# Altium footprint library EE311_footprints.PcbLib: 35 footprints (part 2 of 3)
Each footprint in its own frame and in the unit in brackets; x right, y up, seen from the top. Pads: shape width x height; smd on the part's side, far side on the other; paste and mask are expansions set on the pad; w line width, h text height; cw(c..) or ccw(c..) is an arc to the next point about the centre after c.
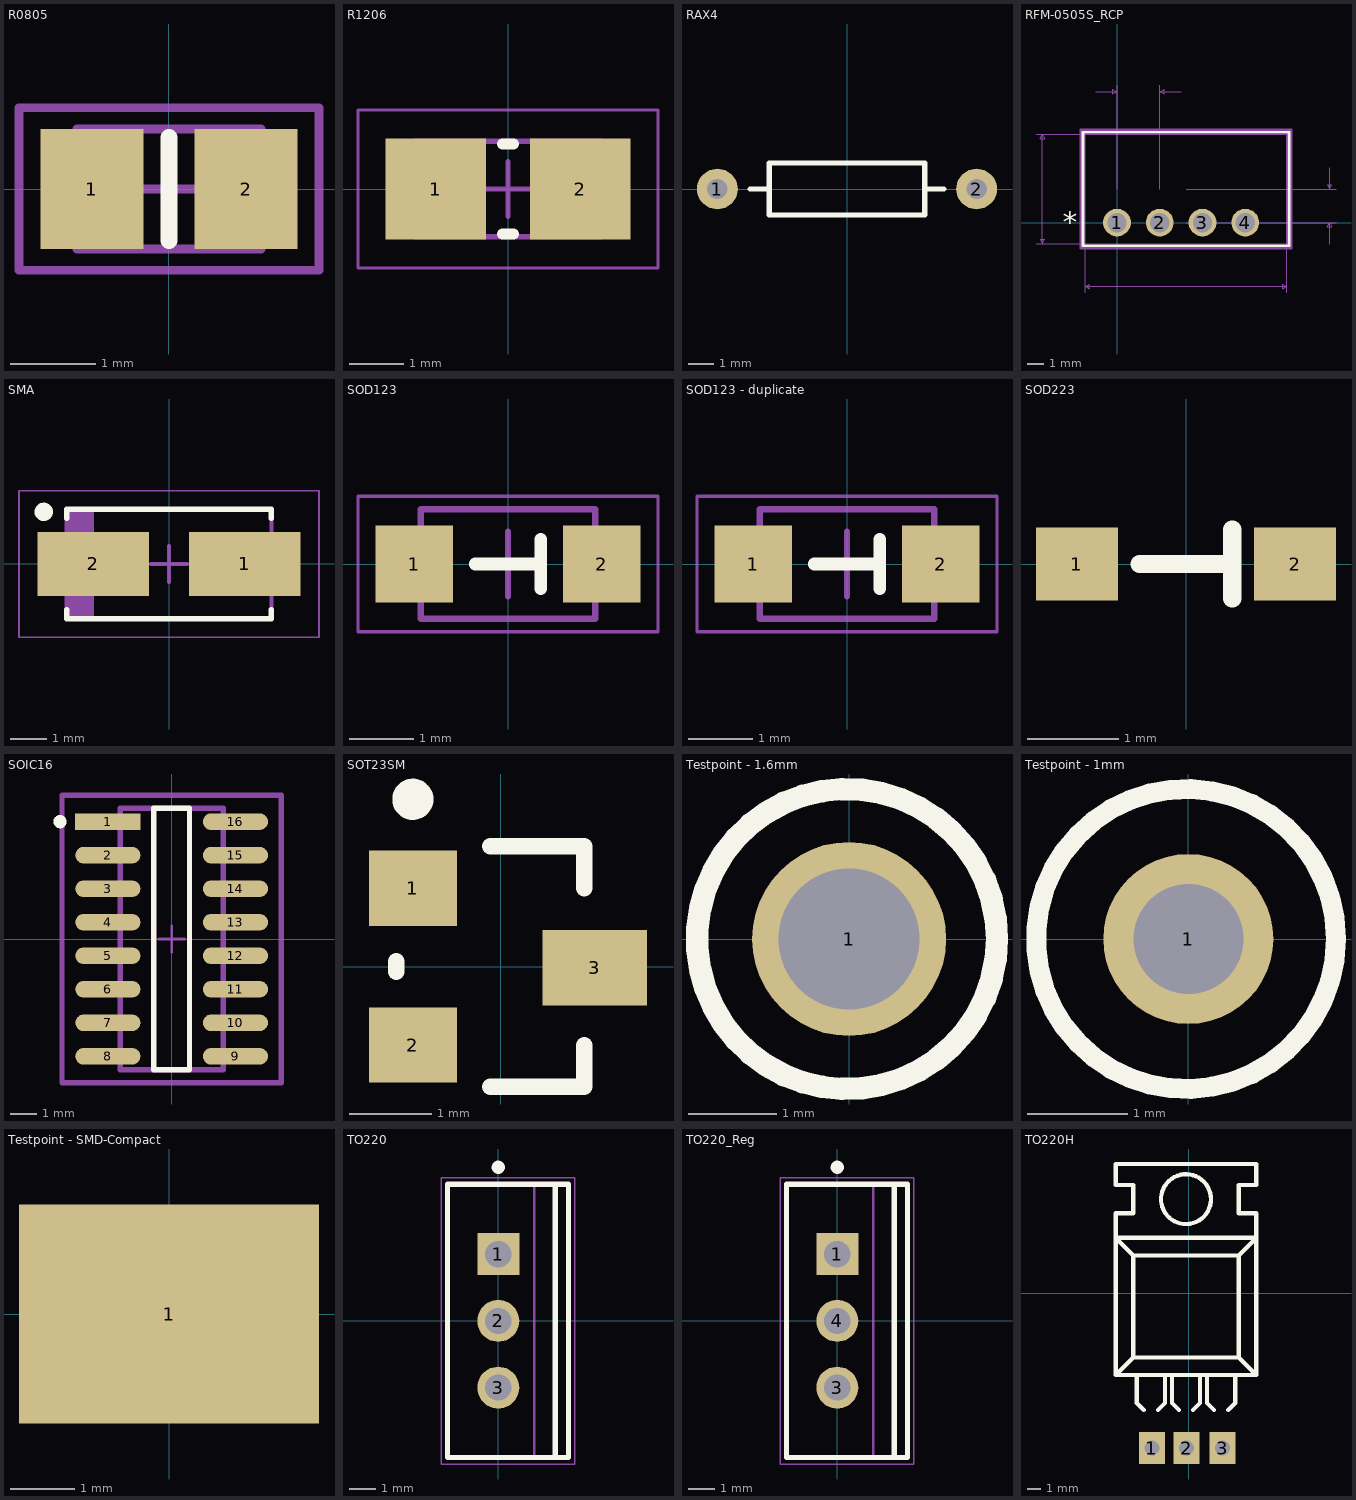
[diagram p1: the footprints below, top view; thin cyan lines are the x and y axes]

## R0805 [mm]
pads (2):
  rect 1.2x1.4 smd: 1(-0.9,0) 2(0.9,0)
Top Overlay:
  lines w0.2: 0,-0.6 0,0.6
Mechanical 13:
  lines w0.1: -1.075,-0.7 -1.075,0.7 1.075,0.7 1.075,-0.7 -1.075,-0.7
Mechanical 15:
  lines w0.1: -0.5,0 0.5,0 ; 0,-0.5 0,0.5 ; -1.75,-0.95 -1.75,0.95 1.75,0.95 1.75,-0.95 -1.75,-0.95
3D body: height 0.65, standoff 0, extent -1.075,-0.7 1.075,0.7

## R1206 [mm] "Chip Resistor, 2-Leads, Body 3.20x1.60mm, IPC Low Density"
height 0.65
pads (2):
  rect 1.85x1.85 smd: 1(-1.325,0) 2(1.325,0)
Top Overlay:
  lines w0.2: -0.1,-0.825 0.1,-0.825 ; -0.1,0.825 0.1,0.825
Mechanical 13:
  lines w0.1: -1.7,-0.875 -1.7,0.875 1.7,0.875 1.7,-0.875 -1.7,-0.875
Mechanical 15:
  lines w0.05: -2.75,-1.45 -2.75,1.45 2.75,1.45 2.75,-1.45 -2.75,-1.45
  lines w0.1: -0.5,0 0.5,0 ; 0,-0.5 0,0.5
3D body: height 0.65, standoff 0, extent -0.8,-0.875 0.8,0.875
3D body: height 0.65, standoff 0, extent -1.7,-0.875 -0.8,0.875
3D body: height 0.65, standoff 0, extent 0.8,-0.875 1.7,0.875

## RAX4 [mm]
pads (2):
  round 1.6 hole 0.8: 1(-5.08,0) 2(5.08,0)
Top Overlay:
  lines w0.2: -3.81,0 -3.048,0 ; 3.048,0 3.81,0 ; -3.048,-1.016 3.048,-1.016 3.048,1.016 -3.048,1.016 -3.048,-1.016

## RFM-0505S_RCP [mil]
pads (4):
  round 65 hole 45 mask+0: 1(0,0) 2(100,0) 3(200,0) 4(300,0)
Top Overlay:
  lines w6: -79.58,-54.26 402.42,-54.26 402.42,211.74 -79.58,211.74 -79.58,-54.26
  text "*" at -127.08,-25 h50
Mechanical 7:
  lines w1: -189.58,-49.26 -74.58,-49.26 -74.58,-164.26 ; -189.58,206.74 -74.58,206.74 ; -50,306.74 0,306.74 ; 0,78.74 0,321.74 ; 100,78.74 100,321.74 ; 150,306.74 100,306.74 ; 161.42,0 512.42,0 ; 161.42,78.74 512.42,78.74 ; 397.42,-164.26 397.42,-49.26 ; 497.42,-50 497.42,0 ; 497.42,128.74 497.42,78.74 ; -174.58,-49.26 -174.58,206.74 ; -174.58,-49.26 -179.58,-39.26 -169.58,-39.26 -174.58,-49.26 ; -174.58,206.74 -179.58,196.74 -169.58,196.74 -174.58,206.74 ; -74.58,-149.26 397.42,-149.26 ; -74.58,-149.26 -64.58,-144.26 -64.58,-154.26 -74.58,-149.26 ; 0,306.74 -10,311.74 -10,301.74 0,306.74 ; 100,306.74 110,311.74 110,301.74 100,306.74 ; 397.42,-149.26 387.42,-144.26 387.42,-154.26 397.42,-149.26 ; 497.42,0 492.42,-10 502.42,-10 497.42,0 ; 497.42,78.74 492.42,88.74 502.42,88.74 497.42,78.74
  text "Default Padstyle: OX65Y65D45P" at -201.08,-299.26 h50
  text "Pin 1 Padstyle: EX65Y65D45P" at -176.08,-359.26 h50
  text "Alt 1 Padstyle: OX60Y90D30P" at -176.08,-419.26 h50
  text "Alt 2 Padstyle: OX90Y60D30P" at -176.08,-479.26 h50
  text "0.1in/2.54mm" at -25,326.74 h25
  text "0.256in/6.502mm" at -382.08,66.24 h25
  text "-0.079in/-2mm" at 517.42,26.87 h25
  text "0.472in/11.989mm" at 61.42,-194.26 h25
Mechanical 13:
  lines w1: -74.58,-49.26 397.42,-49.26 397.42,206.74 -74.58,206.74 -74.58,-49.26
Mechanical 15:
  lines w6: -84.58,-59.26 -84.58,216.74 407.42,216.74 407.42,-59.26 -84.58,-59.26
3D body: height 10, standoff 0, extent 0,0 10,10

## SMA [mm] "Molded Diode, 2-Leads, Body 5.20x2.65mm, IPC Low Density"
height 2.4
pads (2):
  rect 3.05x1.75 smd: 1(2.075,0) 2(-2.075,0)
Top Overlay:
  circle w0.25: c-3.425,1.425 r0.125
  lines w0.15: -2.8,-1.25 -2.8,-1.5 2.8,-1.5 2.8,-1.25 ; -2.8,1.25 -2.8,1.5 2.8,1.5 2.8,1.25
Mechanical 13:
  rectangle: -2.8,-1.5 -2.047,1.5
  lines w0.1: -2.8,-1.5 2.8,-1.5 2.8,1.5 -2.8,1.5 -2.8,-1.5
Mechanical 15:
  lines w0.05: -4.1,-2 4.1,-2 4.1,2 -4.1,2 -4.1,-2
  lines w0.1: -0.5,0 0.5,0 ; 0,-0.5 0,0.5
3D body: height 2.4, standoff 0, extent -2.8,-1.5 2.8,1.5

## SOD123 [mm] "SODFL, 2-Leads, Body 1.60x3.50mm, IPC Low Density"
height 1.1
pads (2):
  rect 1.2x1.2 smd: 1(-1.45,0) 2(1.45,0)
Top Overlay:
  lines w0.2: -0.508,0 0.508,0 ; 0.508,-0.381 0.508,0.381
Mechanical 13:
  lines w0.1: -1.35,-0.85 -1.35,0.85 1.35,0.85 1.35,-0.85 -1.35,-0.85
Mechanical 15:
  lines w0.05: -2.325,-1.05 -2.325,1.05 2.325,1.05 2.325,-1.05 -2.325,-1.05
  lines w0.1: -0.5,0 0.5,0 ; 0,-0.5 0,0.5
3D body: height 1.1, standoff 0, extent -1.35,-0.85 1.35,0.85

## SOD123 - duplicate [mm] "SODFL, 2-Leads, Body 1.60x3.50mm, IPC Low Density"
height 1.1
pads (2):
  rect 1.2x1.2 smd: 1(-1.45,0) 2(1.45,0)
Top Overlay:
  lines w0.2: -0.508,0 0.508,0 ; 0.508,-0.381 0.508,0.381
Mechanical 13:
  lines w0.1: -1.35,-0.85 1.35,-0.85 1.35,0.85 -1.35,0.85 -1.35,-0.85
Mechanical 15:
  lines w0.05: -2.325,-1.05 2.325,-1.05 2.325,1.05 -2.325,1.05 -2.325,-1.05
  lines w0.1: -0.5,0 0.5,0 ; 0,-0.5 0,0.5
3D body: height 1.1, standoff 0, extent -1.35,-0.85 1.35,0.85

## SOD223 [mm]
pads (2):
  rect 0.9x0.8 smd: 1(-1.2,0) 2(1.2,0)
Top Overlay:
  lines w0.2: -0.508,0 0.508,0 ; 0.508,-0.381 0.508,0.381
3D body "SOD323.STEP": height 1.1, standoff 0, extent -1.808,-0.802 0.792,0.548

## SOIC16 [mm]
pads (16):
  rect 2.474x0.622 smd paste+0 mask+0: 1(-2.416,4.445)
  rrect100% 2.474x0.622 smd paste+0 mask+0: 2(-2.416,3.175) 3(-2.416,1.905) 4(-2.416,0.635) 5(-2.416,-0.635) 6(-2.416,-1.905) 7(-2.416,-3.175) 8(-2.416,-4.445) 9(2.416,-4.445) 10(2.416,-3.175) 11(2.416,-1.905) 12(2.416,-0.635) 13(2.416,0.635) 14(2.416,1.905) 15(2.416,3.175) 16(2.416,4.445)
Top Overlay:
  circle w0.25: c-4.228,4.445 r0.125
  lines w0.2: -0.679,-4.95 -0.679,4.95 0.679,4.95 0.679,-4.95 -0.679,-4.95
Mechanical 5:
  lines w0.2: -4.153,-5.45 -4.153,5.45 4.153,5.45 4.153,-5.45 -4.153,-5.45
  text ".Designator" at 0,0.188 h1
Mechanical 13:
  lines w0.2: -1.95,-4.95 -1.95,4.95 1.95,4.95 1.95,-4.95 -1.95,-4.95
Mechanical 15:
  lines w0.2: -4.153,-5.45 -4.153,5.45 4.153,5.45 4.153,-5.45 -4.153,-5.45
Mechanical 16:
  lines w0.1: -0.5,0 0.5,0 ; 0,-0.5 0,0.5
3D body "IC_Texas_Instruments_SN74HC595DR_eec.STEP": height 0.25, standoff 0, extent -4.153,-5.45 4.153,5.45

## SOT23SM [mil] "SOT23 Medium Intensity"
height 43.31
pads (3):
  rect 42x36 smd: 1(-42,37.49) 2(-42,-37.51)
  rect 50x36 smd: 3(45,-0.51)
Top Overlay:
  circle w9.84: c-42,80 r4.92
  lines w7.87: -50,-2.51 -50,2.49 ; -5,-57.51 40,-57.51 40,-37.51 ; -5,57.49 40,57.49 40,37.49
3D body "sot23.STEP": height 39.37, standoff 0, extent -46.06,-57.49 46.07,57.48

## Testpoint - 1.6mm [mm]
pads (1):
  round 2.2 hole 1.6: 1(0,0)
Top Overlay:
  circle w0.254: c-0.023,0 r1.7
3D body "User Library-TEST POINT BLU Keystone 5117.step": height 4.89, standoff -3.07, extent -1.27,-1.27 1.27,1.27

## Testpoint - 1mm [mm]
pads (1):
  round 1.7 hole 1.1: 1(0,0)
Top Overlay:
  circle w0.2: c-0.023,0 r1.5
3D body "User Library-TEST POINT BLU Keystone 5117.step": height 4.89, standoff -3.07, extent -1.27,-1.27 1.27,1.27

## Testpoint - SMD-Compact [mm]
pads (1):
  rect 4.7x3.43 smd: 1(0,0)

## TO220 [mm] "FM, 3-Leads, Body 10.03x8.98mm, Pitch 2.54mm"
height 20.75
pads (3):
  rect 1.6x1.6 hole 1: 1(0,2.54)
  round 1.6 hole 1: 2(0,0) 3(0,-2.54)
Top Overlay:
  circle w0.25: c0,5.85 r0.125
  lines w0.2: 2.17,-5.2 2.17,5.2 ; -1.93,-5.2 -1.93,5.2 2.67,5.2 2.67,-5.2 -1.93,-5.2
Mechanical 13:
  lines w0.1: 1.37,-5.2 1.37,5.2 ; -1.93,-5.2 2.67,-5.2 2.67,5.2 -1.93,5.2 -1.93,-5.2
Mechanical 15:
  lines w0.05: -2.18,-5.45 2.92,-5.45 2.92,5.45 -2.18,5.45 -2.18,-5.45
  lines w0.1: -0.5,0 0.5,0 ; 0,-0.5 0,0.5
3D body: height 20.75, standoff 19.83, extent 1.37,-5.025 2.67,5.025
3D body: height 18.32, standoff 17.95, extent 1.37,-5.025 2.67,-1.875
3D body: height 18.32, standoff 17.95, extent 1.37,1.875 2.67,5.025
3D body: height 17.95, standoff 17.58, extent 1.37,-5.025 2.67,-1.875
3D body: height 17.95, standoff 17.58, extent 1.37,1.875 2.67,5.025
3D body: height 18.67, standoff 18.32, extent 1.37,-5.025 2.67,-1.839
3D body: height 18.67, standoff 18.32, extent 1.37,1.839 2.67,5.025
3D body: height 17.59, standoff 17.23, extent 1.37,-5.025 2.67,-1.839
3D body: height 17.59, standoff 17.23, extent 1.37,1.839 2.67,5.025
3D body: height 19, standoff 18.67, extent 1.37,-5.025 2.67,-1.732
3D body: height 19, standoff 18.67, extent 1.37,1.732 2.67,5.025
3D body: height 17.24, standoff 16.91, extent 1.37,-5.025 2.67,-1.732
3D body: height 17.24, standoff 16.91, extent 1.37,1.732 2.67,5.025
3D body: height 19.28, standoff 18.99, extent 1.37,-5.025 2.67,-1.559
3D body: height 19.28, standoff 18.99, extent 1.37,1.559 2.67,5.025
3D body: height 16.91, standoff 16.62, extent 1.37,-5.025 2.67,-1.559
3D body: height 16.91, standoff 16.62, extent 1.37,1.559 2.67,5.025
3D body: height 19.51, standoff 19.28, extent 1.37,-5.025 2.67,-1.326
3D body: height 19.51, standoff 19.28, extent 1.37,1.326 2.67,5.025
3D body: height 16.63, standoff 16.39, extent 1.37,-5.025 2.67,-1.326
3D body: height 16.63, standoff 16.39, extent 1.37,1.326 2.67,5.025
3D body: height 19.69, standoff 19.51, extent 1.37,-5.025 2.67,-1.042
3D body: height 19.69, standoff 19.51, extent 1.37,1.042 2.67,5.025
3D body: height 16.4, standoff 16.22, extent 1.37,-5.025 2.67,-1.042
3D body: height 16.4, standoff 16.22, extent 1.37,1.042 2.67,5.025
3D body: height 19.79, standoff 19.68, extent 1.37,-5.025 2.67,-0.718
3D body: height 19.79, standoff 19.68, extent 1.37,0.718 2.67,5.025
3D body: height 16.22, standoff 16.11, extent 1.37,-5.025 2.67,-0.718
3D body: height 16.22, standoff 16.11, extent 1.37,0.718 2.67,5.025
3D body: height 19.83, standoff 19.79, extent 1.37,-5.025 2.67,-0.366
3D body: height 19.83, standoff 19.79, extent 1.37,0.366 2.67,5.025
3D body: height 16.12, standoff 16.08, extent 1.37,-5.025 2.67,-0.366
3D body: height 16.12, standoff 16.08, extent 1.37,0.366 2.67,5.025
3D body: height 16.08, standoff 14.35, extent 1.37,-5.025 2.67,5.025
3D body: height 14.35, standoff 4.8, extent -1.93,-5.2 2.67,5.2
3D body: height 0, standoff -1.6, extent -0.235,-2.92 0.235,-2.16
3D body: height 4.8, standoff 0, extent -0.235,-3.13 0.235,-1.95
3D body: height 0, standoff -1.6, extent -0.235,-0.38 0.235,0.38
3D body: height 4.8, standoff 0, extent -0.235,-0.59 0.235,0.59
3D body: height 0, standoff -1.6, extent -0.235,2.16 0.235,2.92
3D body: height 4.8, standoff 0, extent -0.235,1.95 0.235,3.13

## TO220_Reg [mm] "FM, 3-Leads, Body 10.03x8.98mm, Pitch 2.54mm"
height 20.75
pads (3):
  rect 1.6x1.6 hole 1: 1(0,2.54)
  round 1.6 hole 1: 3(0,-2.54) 4(0,0)
Top Overlay:
  circle w0.25: c0,5.85 r0.125
  lines w0.2: 2.17,-5.2 2.17,5.2 ; -1.93,-5.2 -1.93,5.2 2.67,5.2 2.67,-5.2 -1.93,-5.2
Mechanical 13:
  lines w0.1: 1.37,-5.2 1.37,5.2 ; -1.93,-5.2 2.67,-5.2 2.67,5.2 -1.93,5.2 -1.93,-5.2
Mechanical 15:
  lines w0.05: -2.18,-5.45 2.92,-5.45 2.92,5.45 -2.18,5.45 -2.18,-5.45
  lines w0.1: -0.5,0 0.5,0 ; 0,-0.5 0,0.5
3D body: height 20.75, standoff 19.83, extent 1.37,-5.025 2.67,5.025
3D body: height 18.32, standoff 17.95, extent 1.37,-5.025 2.67,-1.875
3D body: height 18.32, standoff 17.95, extent 1.37,1.875 2.67,5.025
3D body: height 17.95, standoff 17.58, extent 1.37,-5.025 2.67,-1.875
3D body: height 17.95, standoff 17.58, extent 1.37,1.875 2.67,5.025
3D body: height 18.67, standoff 18.32, extent 1.37,-5.025 2.67,-1.839
3D body: height 18.67, standoff 18.32, extent 1.37,1.839 2.67,5.025
3D body: height 17.59, standoff 17.23, extent 1.37,-5.025 2.67,-1.839
3D body: height 17.59, standoff 17.23, extent 1.37,1.839 2.67,5.025
3D body: height 19, standoff 18.67, extent 1.37,-5.025 2.67,-1.732
3D body: height 19, standoff 18.67, extent 1.37,1.732 2.67,5.025
3D body: height 17.24, standoff 16.91, extent 1.37,-5.025 2.67,-1.732
3D body: height 17.24, standoff 16.91, extent 1.37,1.732 2.67,5.025
3D body: height 19.28, standoff 18.99, extent 1.37,-5.025 2.67,-1.559
3D body: height 19.28, standoff 18.99, extent 1.37,1.559 2.67,5.025
3D body: height 16.91, standoff 16.62, extent 1.37,-5.025 2.67,-1.559
3D body: height 16.91, standoff 16.62, extent 1.37,1.559 2.67,5.025
3D body: height 19.51, standoff 19.28, extent 1.37,-5.025 2.67,-1.326
3D body: height 19.51, standoff 19.28, extent 1.37,1.326 2.67,5.025
3D body: height 16.63, standoff 16.39, extent 1.37,-5.025 2.67,-1.326
3D body: height 16.63, standoff 16.39, extent 1.37,1.326 2.67,5.025
3D body: height 19.69, standoff 19.51, extent 1.37,-5.025 2.67,-1.042
3D body: height 19.69, standoff 19.51, extent 1.37,1.042 2.67,5.025
3D body: height 16.4, standoff 16.22, extent 1.37,-5.025 2.67,-1.042
3D body: height 16.4, standoff 16.22, extent 1.37,1.042 2.67,5.025
3D body: height 19.79, standoff 19.68, extent 1.37,-5.025 2.67,-0.718
3D body: height 19.79, standoff 19.68, extent 1.37,0.718 2.67,5.025
3D body: height 16.22, standoff 16.11, extent 1.37,-5.025 2.67,-0.718
3D body: height 16.22, standoff 16.11, extent 1.37,0.718 2.67,5.025
3D body: height 19.83, standoff 19.79, extent 1.37,-5.025 2.67,-0.366
3D body: height 19.83, standoff 19.79, extent 1.37,0.366 2.67,5.025
3D body: height 16.12, standoff 16.08, extent 1.37,-5.025 2.67,-0.366
3D body: height 16.12, standoff 16.08, extent 1.37,0.366 2.67,5.025
3D body: height 16.08, standoff 14.35, extent 1.37,-5.025 2.67,5.025
3D body: height 14.35, standoff 4.8, extent -1.93,-5.2 2.67,5.2
3D body: height 0, standoff -1.6, extent -0.235,-2.92 0.235,-2.16
3D body: height 4.8, standoff 0, extent -0.235,-3.13 0.235,-1.95
3D body: height 0, standoff -1.6, extent -0.235,-0.38 0.235,0.38
3D body: height 4.8, standoff 0, extent -0.235,-0.59 0.235,0.59
3D body: height 0, standoff -1.6, extent -0.235,2.16 0.235,2.92
3D body: height 4.8, standoff 0, extent -0.235,1.95 0.235,3.13

## TO220H [mm]
pads (3):
  rect 1.9x2.3 hole 1.1: 1(-2.667,-11.176) 2(-0.167,-11.176) 3(2.433,-11.176)
Top Overlay:
  circle w0.305: c-0.207,6.808 r1.803
  lines w0.305: -5.16,-5.765 -4.017,-4.622 ; -3.763,-5.892 -3.763,-7.924 -3.255,-8.432 ; -2.239,-8.432 -1.731,-7.924 -1.731,-5.892 ; -1.223,-5.892 -1.223,-7.924 -0.715,-8.432 ; 0.301,-8.432 0.809,-7.924 0.809,-5.892 ; 1.317,-5.892 1.317,-7.924 1.825,-8.432 ; 2.841,-8.432 3.349,-7.924 3.349,-5.892 ; -4.017,-4.622 3.603,-4.622 ; -4.017,-4.622 -4.017,2.744 ; -4.017,2.744 3.603,2.744 ; -4.017,2.744 -5.287,4.014 4.873,4.014 3.603,2.744 ; 3.603,-4.622 3.603,2.744 ; 3.603,-4.622 4.873,-5.892 ; 4.873,-5.892 -5.287,-5.892 -5.287,5.792 -4.017,5.792 -4.017,7.824 -5.287,7.824 -5.287,9.348 4.873,9.348 4.873,7.824 3.603,7.824 3.603,5.792 4.873,5.792 4.873,-5.892